# EAGLE library part UCC28730QDRQ1 (library UCC28730QDRQ1)
Zero-Power Standby PSR Flyback Controller for Automotive Source: Datasheet <http://www.ti.com/lit/gpn/ucc28730-q1>
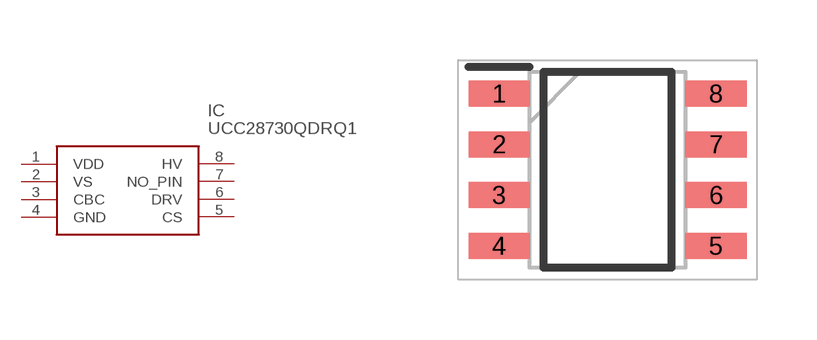
[diagram p0: symbol with the pads of SOIC127P600X175-8N; footprint SOIC127P600X175-8N]

Designator prefix IC

## UCC28730QDRQ1 (Description: Zero-Power Standby PSR Flyback Controller for Automotive; Height: 1.75mm; Manufacturer_Name: Texas Instruments; Manufacturer_Part_Number: UCC28730QDRQ1; Mouser_Part_Number: 595-UCC28730QDRQ1; Mouser_Price-Stock: https://www.mouser.co.uk/ProductDetail/Texas-Instruments/UCC28730QDRQ1?qs=HXFqYaX1Q2wArPNWbLj35A%3D%3D)  [SOIC127P600X175-8N]
1  VDD
2  VS
3  CBC
4  GND
5  CS
6  DRV
7  NO_PIN
8  HV

## Footprint SOIC127P600X175-8N (pad centres in mm)
D0007A
smd 1.528 x 0.65: 1 -2.711,1.905; 2 -2.711,0.635; 3 -2.711,-0.635; 4 -2.711,-1.905; 5 2.711,-1.905; 6 2.711,-0.635; 7 2.711,0.635; 8 2.711,1.905